# EAGLE library part HAUPTSCHUETZ_3-POL_HILFSKONTAKT_11-12_OHNE_KONTAKTSPIEGEL (library e-schuetze-relais)
Hauptschütz mit 3 Schließern, 1 Öffner ohne Kontaktspiegel
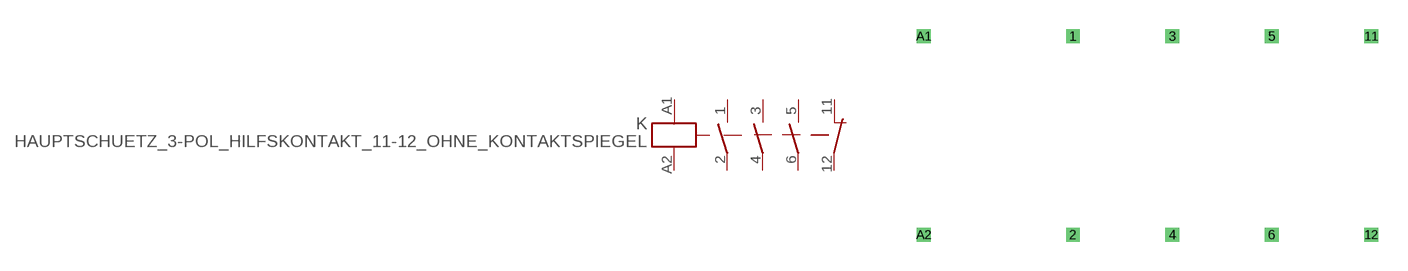
[diagram p3: symbol with the pads of HAUPTSCHUETZ_3-POL_MIT_HILFSKONTAKT_11-12_OHNE_KONTAKTSPIEGEL; footprint HAUPTSCHUETZ_3-POL_MIT_HILFSKONTAKT_11-12_OHNE_KONTAKTSPIEGEL]

Designator prefix K

## HAUPTSCHUETZ_3-POL_HILFSKONTAKT_11-12_OHNE_KONTAKTSPIEGEL  [HAUPTSCHUETZ_3-POL_MIT_HILFSKONTAKT_11-12_OHNE_KONTAKTSPIEGEL]
1  1  pas
2  2  pas
3  3  pas
4  4  pas
5  5  pas
6  6  pas
11  21  pas
12  22  pas
A1  A1  in
A2  A2  in

## Footprint HAUPTSCHUETZ_3-POL_MIT_HILFSKONTAKT_11-12_OHNE_KONTAKTSPIEGEL (pad centres in mm)
Dummy
drill 0.2 pad 0.6 square: 1 7.62,5.08; 2 7.62,-5.08; 3 12.7,5.08; 4 12.7,-5.08; 5 17.78,5.08; 6 17.78,-5.08; 11 22.86,5.08; 12 22.86,-5.08; A1 0,5.08; A2 0,-5.08